# Altium schematic symbol library TPS22918DBVT.SchLib: 1 symbol
Pins are listed as number, name and electrical type; pins without a type are passive.

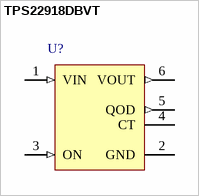
[diagram p0: symbol TPS22918DBVT]

## TPS22918DBVT
designator U?
footprint *SOT95P275X110-6N
pins: 1 VIN (in), 2 GND, 3 ON (in), 4 CT, 5 QOD (out), 6 VOUT (out)